# EAGLE library part SATA (library icnh)
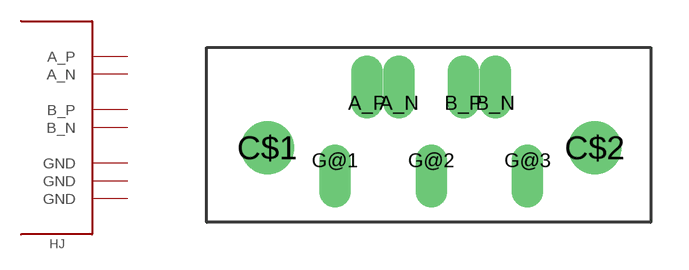
[diagram p10: symbol with the pads of 3M_SATA; footprint 3M_SATA]

Designator prefix HJ

## SATA  [3M_SATA]
A_N  A_N
A_P  A_P
B_N  B_N
B_P  B_P
G@1  GND
G@2  GND
G@3  GND

## Footprint 3M_SATA (pad centres in mm)
drill 0.74 pad 1 offset: A_N 5.21,1.77; A_P 3.94,1.77; B_N 9.02,1.77; B_P 7.75,1.77; G@1 2.67,-0.5; G@2 6.48,-0.5; G@3 10.29,-0.5
drill 1.4: C$1 0,0; C$2 12.96,0